# Altium footprint library 010-Key.PcbLib: 1 footprints
Each footprint in its own frame and in the unit in brackets; x right, y up, seen from the top. Pads: shape width x height; smd on the part's side, far side on the other; paste and mask are expansions set on the pad; w line width, h text height; cw(c..) or ccw(c..) is an arc to the next point about the centre after c.
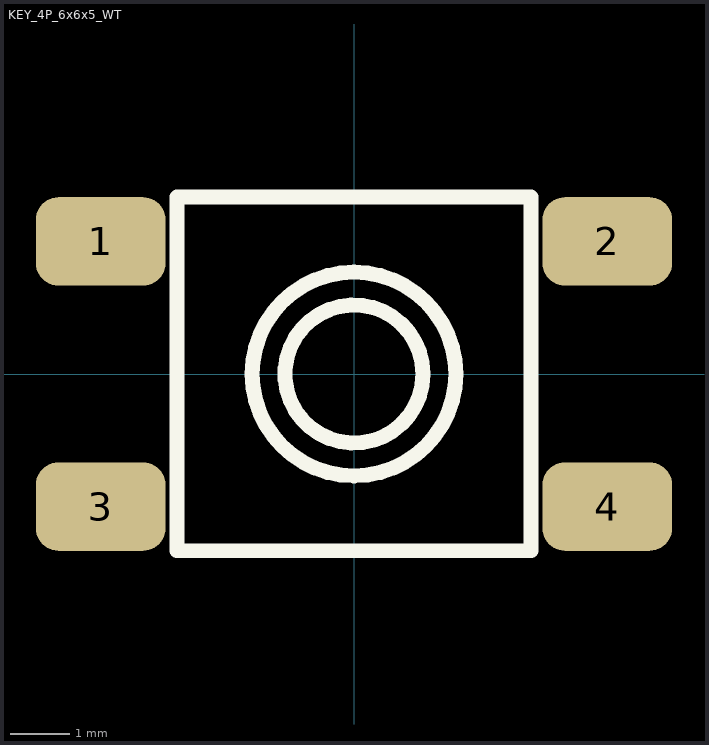
[diagram p0: the footprint, top view; thin cyan lines are the x and y axes]

## KEY_4P_6x6x5_WT [mm] "KEY_4P_6x6x5_WT/L=6.0mm/W=6.0mm/H=5.0mm"
height 5
pads (4):
  rrect50% 2.2x1.5 smd: 1(-4.3,2.25) 2(4.3,2.25) 3(-4.3,-2.25) 4(4.3,-2.25)
Top Overlay:
  circle w0.254: c0,0 r1.727
  circle w0.254: c0,0 r1.171
  lines w0.254: -3,-3 -3,3 3,3 3,-3 -3,-3
3D body "KEY_4P_6x6x5_WT.step": height 5.51, standoff 0, extent -4.25,-3 4.25,3